# Altium schematic symbol library MDBT50Q_52833_SCHLIB_200103.SchLib: 1 symbol
Pins are listed as number, name and electrical type; pins without a type are passive.

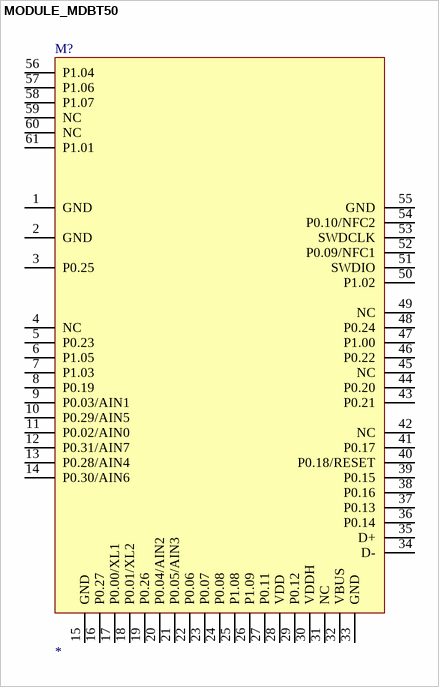
[diagram p0: symbol MODULE_MDBT50]

## MODULE_MDBT50
designator M?
MDBT50
pins: 1 GND, 2 GND, 3 P0.25, 4 NC, 5 P0.23, 6 P1.05, 7 P1.03, 8 P0.19, 9 P0.03/AIN1, 10 P0.29/AIN5, 11 P0.02/AIN0, 12 P0.31/AIN7, 13 P0.28/AIN4, 14 P0.30/AIN6, 15 GND, 16 P0.27, 17 P0.00/XL1, 18 P0.01/XL2, 19 P0.26, 20 P0.04/AIN2, 21 P0.05/AIN3, 22 P0.06, 23 P0.07, 24 P0.08, 25 P1.08, 26 P1.09, 27 P0.11, 28 VDD, 29 P0.12, 30 VDDH, 31 NC, 32 VBUS, 33 GND, 34 D-, 35 D+, 36 P0.14, 37 P0.13, 38 P0.16, 39 P0.15, 40 P0.18/RESET, 41 P0.17, 42 NC, 43 P0.21, 44 P0.20, 45 NC, 46 P0.22, 47 P1.00, 48 P0.24, 49 NC, 50 P1.02, 51 SWDIO, 52 P0.09/NFC1, 53 SWDCLK, 54 P0.10/NFC2, 55 GND, 56 P1.04, 57 P1.06, 58 P1.07, 59 NC, 60 NC, 61 P1.01